# Altium schematic symbol library 34-pin_Connector_Sch.SchLib: 1 symbol
Pins are listed as number, name and electrical type; pins without a type are passive.

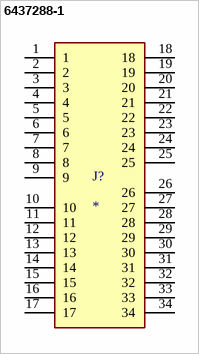
[diagram p0: symbol 6437288-1]

## 6437288-1
designator J?
Receptacle Connector, Gold, Pitch 3.0000 mm, AC Voltage 250 V, AMP Series | TE Connectivity 6437288-1; SnapEDA_Link: https://www.snapeda.com/parts/6437288-1/TE+Connectivity+AMP+Connectors/view-part/?ref=snap; Package: None; Value: *; MF: TE Connectivity; MP: 6437288-1; EU_RoHS_Compliance: Compliant; Check_prices: https://www.snapeda.com/parts/6437288-1/TE+Connectivity+AMP+Connectors/view-part/?ref=eda
footprint TE_6437288-1
pins: 1, 2, 3, 4, 5, 6, 7, 8, 9, 10, 11, 12, 13, 14, 15, 16, 17, 18, 19, 20, 21, 22, 23, 24, 25, 26, 27, 28, 29, 30, 31, 32, 33, 34